# Altium footprint library PcbLib1.PcbLib: 18 footprints (part 2 of 2)
Each footprint in its own frame and in the unit in brackets; x right, y up, seen from the top. Pads: shape width x height; smd on the part's side, far side on the other; paste and mask are expansions set on the pad; w line width, h text height; cw(c..) or ccw(c..) is an arc to the next point about the centre after c.
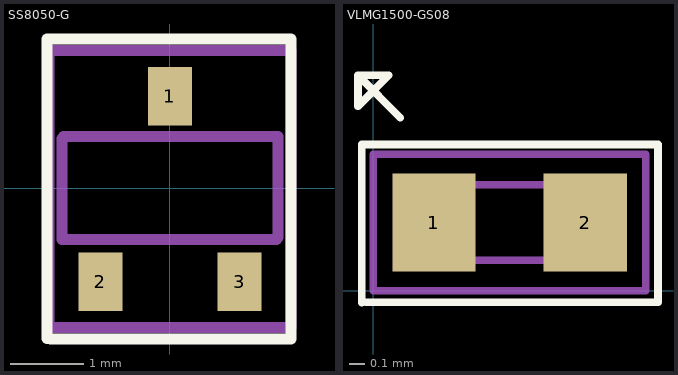
[diagram p1: the footprints below, top view; thin cyan lines are the x and y axes]

## SS8050-G [mm]
pads (3):
  rect 0.6x0.8 smd: 1(0,1.25) 2(-0.95,-1.275) 3(0.95,-1.275)
Top Overlay:
  lines w0.15: -1.676,-2.05 -1.676,-1.063 -1.676,0.911 -1.676,2.032 -0.795,2.032 0.845,2.032 1.65,2.032 1.65,-2.057 -1.63,-2.057
Top 3D Body:
  lines w0.15: -1.475,-0.7 1.45,-0.7 1.475,-0.675 1.475,0.7 -1.45,0.7 -1.475,0.675 -1.475,-0.7
top courtyard:
  lines w0.15: -1.65,-1.9 1.65,-1.9 1.65,1.875 -1.65,1.875 -1.65,-1.9
3D body "SS8050-G.stp": height 1.15, standoff 0, extent -1.46,-1.19 1.44,1.21

## VLMG1500-GS08 [mm]
pads (2):
  rect 0.55x0.65 smd mask+0.05: 1(0.4,0.45) 2(1.4,0.45)
Top Overlay:
  lines w0.05: -0.076,-0.08 -0.076,0.125 ; -0.076,0.105 -0.076,0.962 ; -0.076,0.965 1.88,0.965 1.88,-0.076 -0.051,-0.076 ; 0.178,1.143 -0.102,1.422 ; -0.102,1.422 0.102,1.422 -0.102,1.219 -0.102,1.422
Top 3D Body:
  lines w0.05: 0.4,0.2 1.4,0.2 1.4,0.7 0.4,0.7 0.4,0.2
top courtyard:
  lines w0.05: 0,0 0,0.89 0,0.9 1.8,0.9 1.8,0 0,0
3D body "VLMG1500-GS08.stp": height 0.36, standoff 0.01, extent 0.41,0.21 1.41,0.71